# Altium footprint library Passive_Old.PcbLib: 221 footprints (part 1 of 14)
Each footprint in its own frame and in the unit in brackets; x right, y up, seen from the top. Pads: shape width x height; smd on the part's side, far side on the other; paste and mask are expansions set on the pad; w line width, h text height; cw(c..) or ccw(c..) is an arc to the next point about the centre after c.
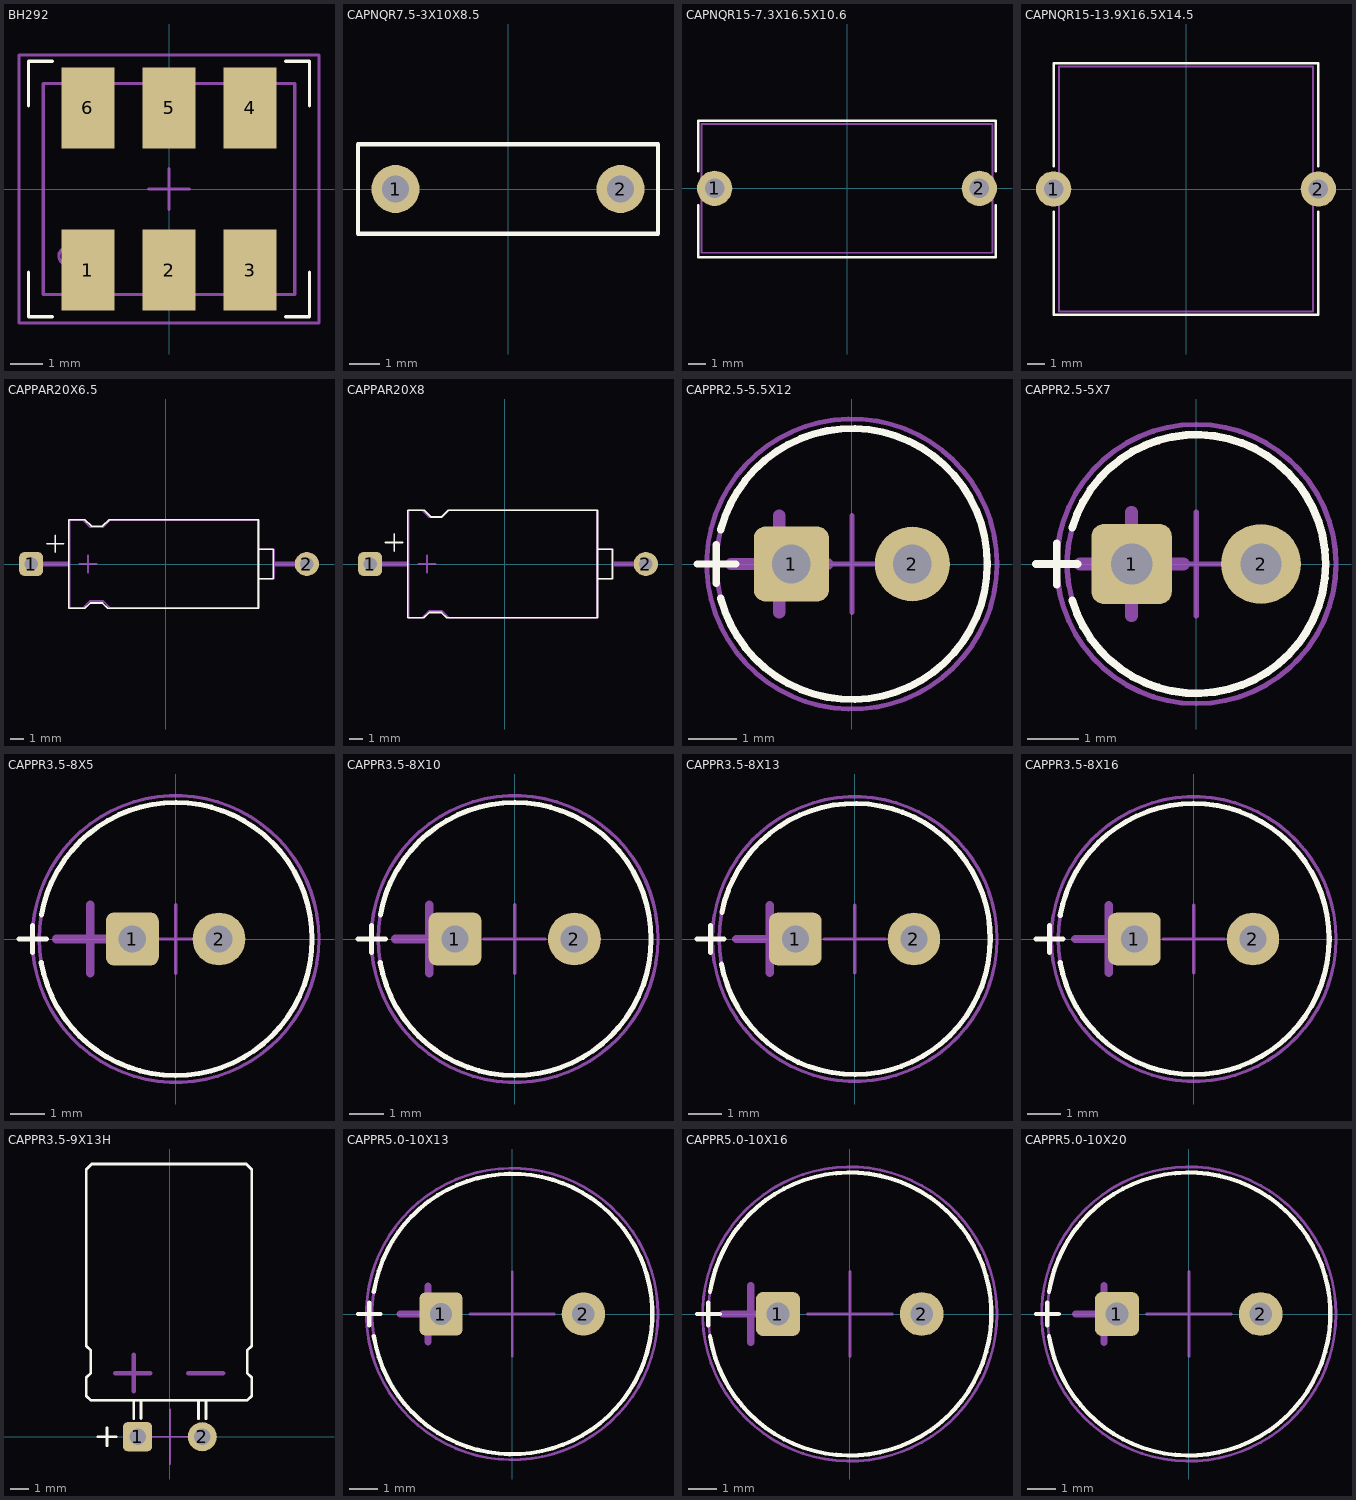
[diagram p0: the footprints below, top view; thin cyan lines are the x and y axes]

## BH292 [mm] "RF Transformer 6 pin 7.1x7.9x5.7mm"
height 5.72
pads (6):
  rect 1.65x2.54 smd: 1(-2.54,-2.54) 2(0,-2.54) 3(2.54,-2.54) 4(2.54,2.54) 5(0,2.54) 6(-2.54,2.54)
Top Overlay:
  lines w0.102: -4.4,-2.6 -4.4,-4 -3.65,-4 ; -4.4,2.6 -4.4,4 -3.65,4 ; 3.65,-4 4.4,-4 4.4,-2.6 ; 3.65,4 4.4,4 4.4,2.6
Mechanical 13:
  lines w0.102: -2.95,-2.1 cw(c-3.2,-2.1) -2.95,-2.097 ; -3.937,-3.302 -3.937,3.302 3.937,3.302 3.937,-3.302 -3.937,-3.302
Mechanical 15:
  lines w0.102: -0.635,0 0.635,0 ; 0,-0.635 0,0.635 ; -4.7,-4.2 4.7,-4.2 4.7,4.2 -4.7,4.2 -4.7,-4.2
3D body: height 0.8, standoff 0, extent -3.124,-3.556 -1.956,-1.905
3D body: height 0.8, standoff 0, extent -0.584,-3.556 0.584,-1.905
3D body: height 0.8, standoff 0, extent 1.956,-3.556 3.124,-1.905
3D body: height 0.8, standoff 0, extent 1.956,1.905 3.124,3.556
3D body: height 0.8, standoff 0, extent -0.584,1.905 0.584,3.556
3D body: height 0.8, standoff 0, extent -3.124,1.905 -1.956,3.556
3D body: height 5.74, standoff 5.71, extent -3.454,-2.354 -2.945,-1.836
3D body: height 0.6, standoff 0.3, extent -3.937,-3.302 3.937,3.302
3D body: height 5.71, standoff 0.6, extent -3.937,-2.794 3.937,2.794

## CAPNQR7.5-3X10X8.5 [mm] "Capacitor plastic 10x3x8.5mm R7.5"
height 8.5
pads (2):
  round 1.6 hole 0.9: 1(-3.75,0) 2(3.75,0)
Top Overlay:
  lines w0.15: -5,-1.5 -5,1.5 5,1.5 5,-1.5 -5,-1.5
Mechanical 13:
  lines w0.102: -5,-1.5 5,-1.5 5,1.5 -5,1.5 -5,-1.5
3D body: height 8.5, standoff 0, extent -5,-1.5 5,1.5

## CAPNQR15-7.3X16.5X10.6 [mm] "Capacitor plastic 7.3x16.5x10.6mm R15mm"
height 10.6
pads (2):
  round 2 hole 1.1: 1(-7.5,0) 2(7.5,0)
Top Overlay:
  lines w0.15: -8.425,-0.975 -8.425,-3.9 8.425,-3.9 8.425,-0.975 ; -8.425,0.975 -8.425,3.825 8.425,3.825 8.425,0.975
Mechanical 13:
  lines w0.102: -8.25,-3.65 8.25,-3.65 8.25,3.65 -8.25,3.65 -8.25,-3.65
3D body: height 10.6, standoff 0.2, extent -8.25,-3.65 8.25,3.65
3D body: height 0, standoff -5, extent -7.9,-0.399 -7.103,0.399
3D body: height 0, standoff -5, extent 7.103,-0.399 7.9,0.399

## CAPNQR15-13.9X16.5X14.5 [mm] "Capacitor plastic 13.9x16.5x14.5mm R15mm"
height 14.5
pads (2):
  round 2 hole 1.1: 1(-7.5,0) 2(7.5,0)
Top Overlay:
  lines w0.15: -7.5,-1.3 -7.5,-7.125 7.5,-7.125 7.5,-1.3 ; -7.5,1.3 -7.5,7.125 7.5,7.125 7.5,1.3
Mechanical 13:
  lines w0.102: -7.2,-6.95 -7.2,6.95 7.2,6.95 7.2,-6.95 -7.2,-6.95
3D body: height 10, standoff -3, extent 7.103,-0.399 7.9,0.399
3D body: height 10, standoff -3, extent -7.9,-0.399 -7.103,0.399
3D body: height 10, standoff -3, extent 7.103,-0.399 7.9,0.399
3D body: height 14.5, standoff 0, extent -7.2,-6.95 -6.2,6.95
3D body: height 14.5, standoff 0, extent -6.2,-6.975 6.2,6.925
3D body: height 14.5, standoff 0, extent 6.2,-6.95 7.2,6.95

## CAPPAR20X6.5 [mm] "Capacitor polarized axial D6.5x15mm R20.5mm"
height 7
pads (2):
  rrect50% 1.8x1.8 hole 1: 1(-10,0)
  round 1.8 hole 1: 2(10.5,0)
Top Overlay:
  lines w0.127: -8.835,1.5 -7.565,1.5 ; -8.2,0.865 -8.2,2.135 ; 6.9,-1.1 8,-1.1 8,1.1 6.9,1.1 ; -7.2,-3.3 -7.2,0 -7.2,3.3 -6,3.3 -5.5,2.8 -4.7,2.8 -4.2,3.3 6.9,3.3 6.9,-3.3 -4.3,-3.3 -4.7,-2.9 -5.6,-2.9 -6,-3.3 -7.2,-3.3
Mechanical 13:
  lines w0.127: -6.398,0 -5.128,0 ; -5.763,-0.635 -5.763,0.635 ; 6.858,-1.1 8.057,-1.1 8.057,1.1 6.858,1.1 ; -7.142,-3.251 -6.142,-3.251 -5.641,-2.75 -4.641,-2.75 -4.14,-3.251 6.858,-3.251 6.858,3.25 -4.14,3.25 -4.641,2.75 -5.641,2.75 -6.142,3.25 -7.142,3.25 -7.142,0 -7.142,-3.25
  lines w0.406: -10,0 -7.3,0 ; 8.2,0 10.5,0
3D body: height 5.48, standoff 1.1, extent 5.9,-2.196 6.9,2.196
3D body: height 4.39, standoff 2.2, extent 6.858,-1.098 8.058,1.098
3D body: height 3.7, standoff 2.9, extent 7.625,-0.399 10.5,0.399
3D body: height 3.3, standoff -3.2, extent 10.102,-0.398 10.898,0.4
3D body: height 3.7, standoff 2.9, extent 10.102,-0.397 10.898,0.4
3D body: height 3.7, standoff 2.9, extent -10.398,-0.4 -9.602,0.397
3D body: height 3.3, standoff -3.2, extent -10.398,-0.4 -9.602,0.398
3D body: height 3.7, standoff 2.9, extent -10,-0.399 -7.125,0.399
3D body: height 6.52, standoff 0.05, extent -4.625,-3.244 6.875,3.244
3D body: height 6.52, standoff 0.05, extent -7.125,-3.244 -5.625,3.244
3D body: height 6.28, standoff 0.3, extent -5.625,-2.994 -4.625,2.994
3D body: height 5.48, standoff 1.1, extent -7.15,-2.221 -6.15,2.171

## CAPPAR20X8 [mm] "Capacitor polarized axial D8x15mm R20.5mm"
height 8.4
pads (2):
  rrect50% 1.8x1.8 hole 1: 1(-10,0)
  round 1.8 hole 1: 2(10.5,0)
Top Overlay:
  lines w0.127: -8.85,1.6 -7.58,1.6 ; -8.215,0.965 -8.215,2.235 ; -7.2,4 -7.2,-4 -6,-4 -5.6,-3.6 -4.7,-3.6 -4.3,-4 6.9,-4 6.9,4 -4.186,4 -4.686,3.5 -5.486,3.5 -5.986,4 -7.186,4 ; 6.9,-1.1 8,-1.1 8,1.1 6.9,1.1
Mechanical 13:
  lines w0.127: -6.398,0 -5.128,0 ; -5.763,-0.635 -5.763,0.635 ; 6.858,-1.1 8.057,-1.1 8.057,1.1 6.858,1.1 ; -7.142,-4 -7.142,0 -7.142,4 -6.142,4 -5.641,3.5 -4.641,3.5 -4.14,4 6.858,4 6.858,-4 -4.14,-4 -4.641,-3.5 -5.641,-3.5 -6.142,-4 -7.142,-4
  lines w0.406: -10,0 -7.3,0 ; 8.2,0 10.5,0
3D body: height 7.08, standoff 1.1, extent -7.15,-2.994 -6.15,2.994
3D body: height 7.82, standoff 0.35, extent -5.625,-3.743 -4.625,3.743
3D body: height 8.07, standoff 0.1, extent -7.125,-3.992 -5.625,3.992
3D body: height 8.07, standoff 0.1, extent -4.625,-3.992 6.875,3.992
3D body: height 4.5, standoff 3.7, extent -10,-0.399 -7.125,0.399
3D body: height 4.1, standoff -3.2, extent -10.398,-0.4 -9.602,0.398
3D body: height 4.5, standoff 3.7, extent -10.398,-0.4 -9.602,0.397
3D body: height 4.5, standoff 3.7, extent 10.102,-0.397 10.898,0.4
3D body: height 4.1, standoff -3.2, extent 10.102,-0.398 10.898,0.4
3D body: height 4.5, standoff 3.7, extent 7.625,-0.399 10.5,0.399
3D body: height 5.19, standoff 3, extent 6.858,-1.098 8.058,1.098
3D body: height 7.08, standoff 1.1, extent 5.9,-2.994 6.9,2.994

## CAPPR2.5-5.5X12 [mm] "Capacitor polarized radial D5.5x12mm R2.5mm"
height 12
pads (2):
  rrect30% 1.55x1.55 hole 0.8: 1(-1.25,0)
  round 1.55 hole 0.8: 2(1.25,0)
Top Overlay:
  lines w0.15: -3.2,0 -2.4,0 ; -2.8,-0.4 -2.8,0.4 ; -2.71,-0.703 ccw(c0,0) -2.71,0.703
Mechanical 13:
  circle w0.1: c0,0 r2.8
  lines w0.25: -2.5,0 -0.5,0 ; -1.5,-1 -1.5,1
Mechanical 15:
  circle w0.1: c0,0 r3
  lines w0.102: -0.9,0 0.9,0 ; 0,-1 0,1
3D body: height 10, standoff 0, extent -2.8,-2.8 2.8,2.8

## CAPPR2.5-5X7 [mm] "Capacitor polarized radial D5x7mm R2.5mm"
height 7
pads (2):
  rrect30% 1.55x1.55 hole 0.8: 1(-1.25,0)
  round 1.55 hole 0.8: 2(1.25,0)
Top Overlay:
  lines w0.15: -3.1,0 -2.3,0 ; -2.7,-0.4 -2.7,0.4 ; -2.4,-0.7 ccw(c0,0) -2.4,0.7
Mechanical 13:
  circle w0.1: c0,0 r2.5
  lines w0.25: -2.25,0 -0.25,0 ; -1.25,-1 -1.25,1
Mechanical 15:
  circle w0.1: c0,0 r2.7
  lines w0.102: -0.9,0 0.9,0 ; 0,-1 0,1
3D body: height 10, standoff 0, extent -2.5,-2.5 2.5,2.5

## CAPPR3.5-8X5 [mm] "Capacitor polarized radial D8x5mm R2.5mm"
height 5
pads (2):
  rrect30% 1.55x1.55 hole 0.8: 1(-1.27,0)
  round 1.55 hole 0.8: 2(1.27,0)
Top Overlay:
  lines w0.15: -4.591,0 -3.791,0 ; -4.191,-0.4 -4.191,0.4 ; -3.94,-0.69 ccw(c0,0) -3.937,0.707
Mechanical 13:
  circle w0.1: c0,0 r4
  lines w0.25: -3.5,0 -1.581,0 ; -2.5,-1 -2.5,1
Mechanical 15:
  circle w0.1: c0,0 r4.2
  lines w0.102: -0.9,0 0.9,0 ; 0,-1 0,1
3D body: height 5.01, standoff 3, extent -3.11,-3.11 3.11,3.11
3D body: height 5, standoff 0, extent -4,-4 4,4
3D body: height 0, standoff -3.2, extent -1.581,-0.306 -0.969,0.306
3D body: height 0, standoff -3.2, extent 0.969,-0.306 1.581,0.306

## CAPPR3.5-8X10 [mm] "Capacitor polarized radial D8x10mm R3.5mm"
height 10
pads (2):
  rrect30% 1.55x1.55 hole 0.8: 1(-1.75,0)
  round 1.55 hole 0.8: 2(1.75,0)
Top Overlay:
  lines w0.15: -4.591,0 -3.791,0 ; -4.191,-0.4 -4.191,0.4 ; -3.94,-0.69 ccw(c0,0) -3.937,0.707
Mechanical 13:
  circle w0.1: c0,0 r4
  lines w0.25: -3.5,0 -1.5,0 ; -2.5,-1 -2.5,1
Mechanical 15:
  circle w0.1: c0,0 r4.2
  lines w0.102: -0.9,0 0.9,0 ; 0,-1 0,1
3D body: height 10, standoff 0, extent -4,-4 4,4

## CAPPR3.5-8X13 [mm] "Capacitor polarized radial D8x13mm R3.5mm"
height 13
pads (2):
  rrect30% 1.55x1.55 hole 0.8: 1(-1.75,0)
  round 1.55 hole 0.8: 2(1.75,0)
Top Overlay:
  lines w0.15: -4.654,0 -3.854,0 ; -4.254,-0.4 -4.254,0.4 ; -3.93,-0.744 ccw(c0,0) -3.922,0.784
Mechanical 13:
  circle w0.1: c0,0 r4
  lines w0.25: -3.5,0 -1.5,0 ; -2.5,-1 -2.5,1
Mechanical 15:
  circle w0.1: c0,0 r4.2
  lines w0.102: -0.9,0 0.9,0 ; 0,-1 0,1
3D body: height 10, standoff 0, extent -4,-4 4,4

## CAPPR3.5-8X16 [mm] "Capacitor polarized radial D8x16mm R3.5mm"
height 16
pads (2):
  rrect30% 1.55x1.55 hole 0.8: 1(-1.75,0)
  round 1.55 hole 0.8: 2(1.75,0)
Top Overlay:
  lines w0.15: -4.654,0 -3.854,0 ; -4.254,-0.4 -4.254,0.4 ; -3.939,-0.695 ccw(c0,0) -3.939,0.695
Mechanical 13:
  circle w0.1: c0,0 r4
  lines w0.25: -3.5,0 -1.5,0 ; -2.5,-1 -2.5,1
Mechanical 15:
  circle w0.1: c0,0 r4.2
  lines w0.102: -0.9,0 0.9,0 ; 0,-1 0,1
3D body: height 16, standoff 0, extent -4,-4 4,4

## CAPPR3.5-9X13H [mm] "Capacitor polarized radial D9x13mm R3.5mm horizontal"
height 9
pads (2):
  rrect30% 1.6x1.6 hole 0.9: 1(-1.778,0)
  round 1.6 hole 0.9: 2(1.778,0)
Top Overlay:
  lines w0.15: -3.963,0 -2.963,0 ; -3.463,-0.5 -3.463,0.5 ; -1.988,1 -1.988,1.981 ; -1.59,1 -1.59,1.981 ; 1.575,0.991 1.575,1.981 ; 1.981,0.991 1.981,1.981 ; -4.6,2.25 -4.6,3.25 -4.35,3.5 -4.35,4.75 -4.6,5 -4.6,14.7 -4.3,15 4.2,15 4.5,14.7 4.5,5 4.25,4.75 4.25,3.5 4.5,3.25 4.5,2.25 4.25,2 -4.35,2 -4.6,2.25
Mechanical 13:
  lines w0.102: -4.6,2.25 -4.6,3.25 -4.35,3.5 -4.35,4.75 -4.6,5 -4.6,14.7 -4.3,15 4.2,15 4.5,14.7 4.5,5 4.25,4.75 4.25,3.5 4.5,3.25 4.5,2.25 4.25,2 -4.35,2 -4.6,2.25
  lines w0.25: -3,3.5 -1.081,3.5 ; -2,2.5 -2,4.5 ; 1,3.5 2.919,3.5
Mechanical 15:
  lines w0.102: -1.5,0 1.5,0 ; 0,-1.5 0,1.5
3D body: height 9, standoff 0, extent -4.606,2 4.5,15.006
3D body: height 4.8, standoff 4.2, extent -1.981,-0.178 -1.575,2
3D body: height 4.2, standoff -3.2, extent -1.981,-0.178 -1.575,0.203
3D body: height 4.2, standoff -3.2, extent 1.575,-0.178 1.981,0.203
3D body: height 4.8, standoff 4.2, extent 1.575,-0.178 1.981,2

## CAPPR5.0-10X13 [mm] "Capacitor polarized radial D10x13mm R5.0mm"
height 13
pads (2):
  rrect30% 1.55x1.55 hole 0.8: 1(-2.54,0)
  round 1.55 hole 0.8: 2(2.54,0)
Top Overlay:
  lines w0.15: -5.5,0 -4.7,0 ; -5.1,-0.4 -5.1,0.4 ; -4.938,-0.782 ccw(c0,0) -4.938,0.782
Mechanical 13:
  circle w0.1: c0,0 r5
  lines w0.25: -4,0 -2,0 ; -3,-1 -3,1
Mechanical 15:
  circle w0.1: c0,0 r5.2
  lines w0.102: -1.5,0 1.5,0 ; 0,-1.5 0,1.5
3D body: height 13, standoff 0, extent -5,-5 5,5

## CAPPR5.0-10X16 [mm] "Capacitor polarized radial D10x16mm R5.0mm"
height 16
pads (2):
  rrect30% 1.55x1.55 hole 0.8: 1(-2.54,0)
  round 1.55 hole 0.8: 2(2.54,0)
Top Overlay:
  lines w0.15: -5.4,0 -4.6,0 ; -5,-0.4 -5,0.4 ; -4.938,-0.782 ccw(c0,0) -4.938,0.782
Mechanical 13:
  circle w0.1: c0,0 r5
  lines w0.25: -4.5,0 -2.5,0 ; -3.5,-1 -3.5,1
Mechanical 15:
  circle w0.1: c0,0 r5.2
  lines w0.102: -1.5,0 1.5,0 ; 0,-1.5 0,1.5
3D body: height 16, standoff 0, extent -5,-5 5,5

## CAPPR5.0-10X20 [mm] "Capacitor polarized radial D10x20mm R5.0mm"
height 20
pads (2):
  rrect30% 1.55x1.55 hole 0.8: 1(-2.54,0)
  round 1.55 hole 0.8: 2(2.54,0)
Top Overlay:
  lines w0.15: -5.4,0 -4.6,0 ; -5,-0.4 -5,0.4 ; -4.938,-0.782 ccw(c0,0) -4.938,0.782
Mechanical 13:
  circle w0.1: c0,0 r5
  lines w0.25: -4,0 -2,0 ; -3,-1 -3,1
Mechanical 15:
  circle w0.1: c0,0 r5.2
  lines w0.102: -1.5,0 1.5,0 ; 0,-1.5 0,1.5
3D body: height 20, standoff 0, extent -5,-5 5,5